# Altium schematic symbol library IC_fact.SchLib: 40 symbols
Pins are listed as number, name and electrical type; pins without a type are passive.

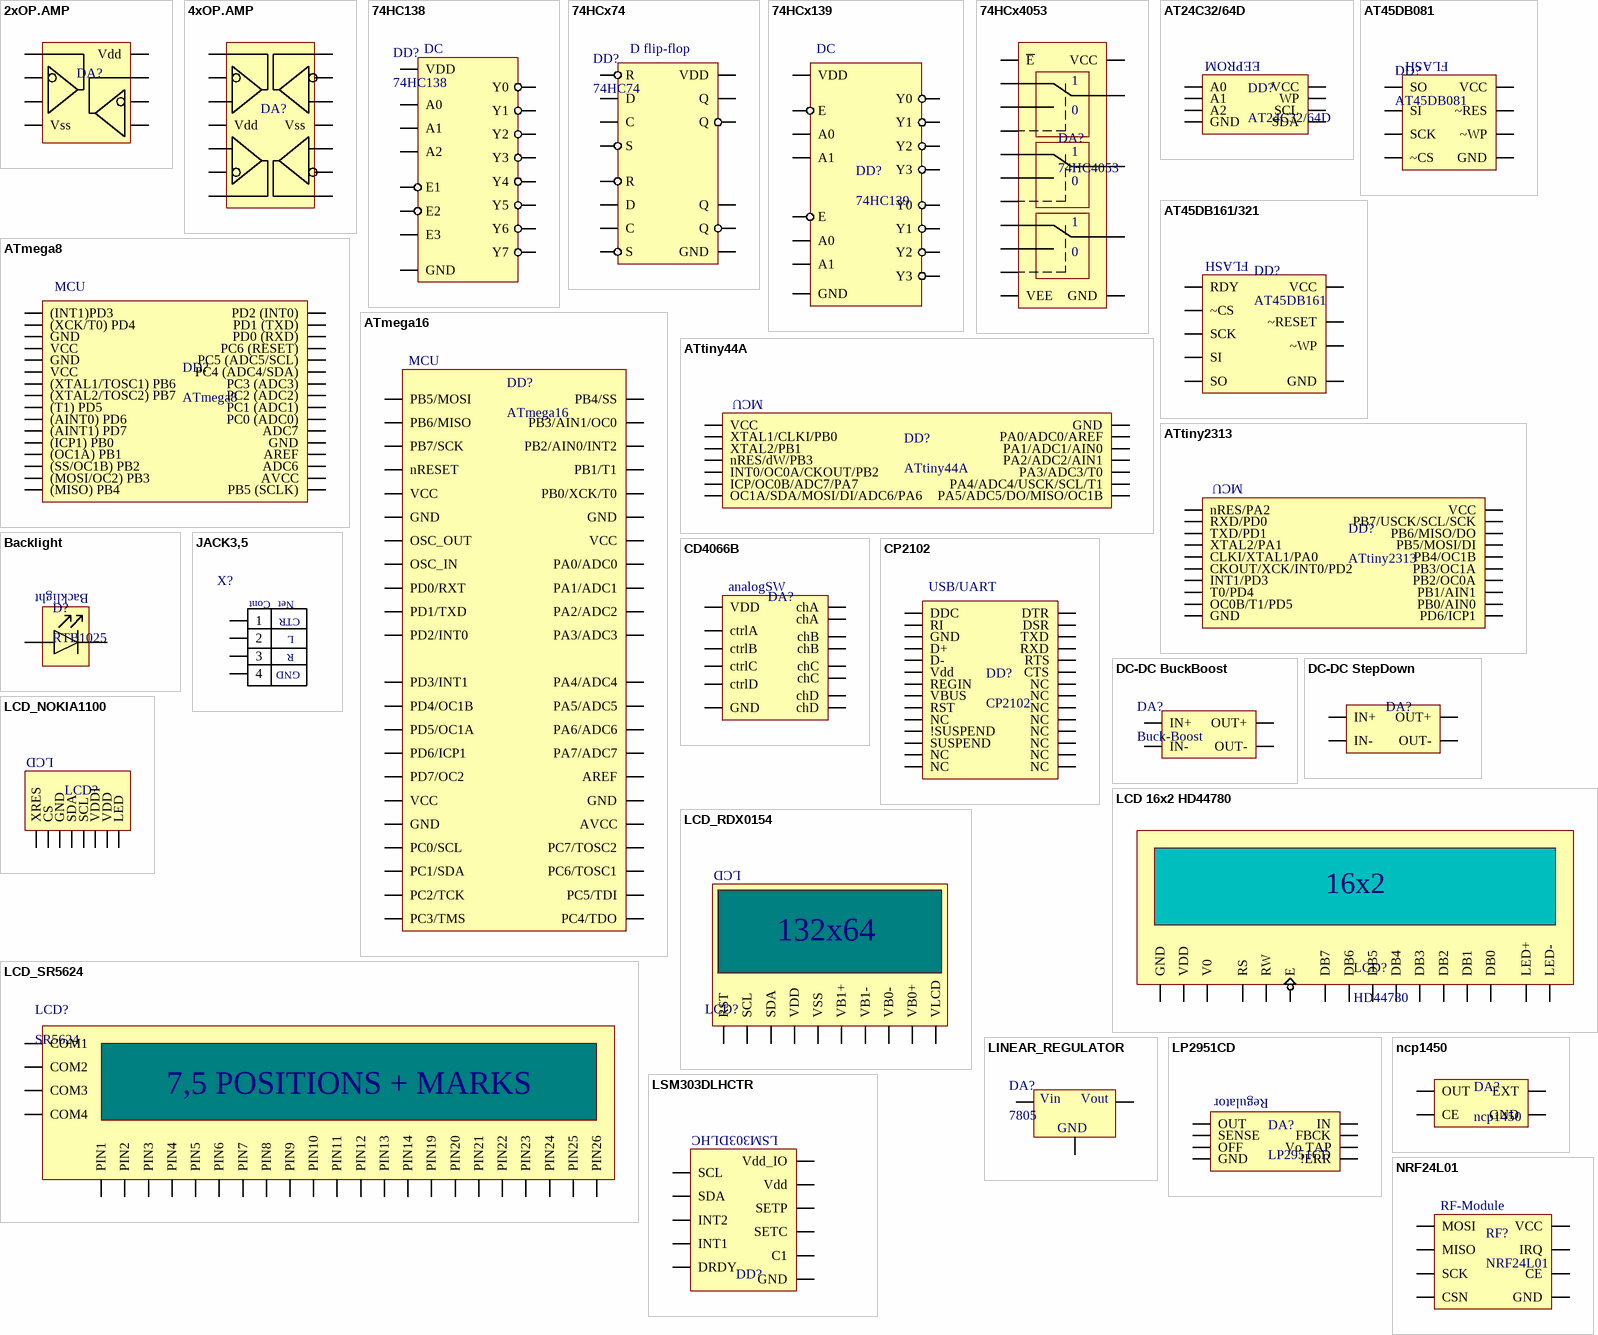
[diagram p0: symbols 2xOP.AMP to NRF24L01]

## 2xOP.AMP
designator DA?  (value not drawn)
footprint SOP8
pins: 1, 2, 3, 4 Vss, 5, 6, 7, 8 Vdd

## 4xOP.AMP
designator DA?
footprint SOP14
pins: 1, 2, 3, 4 Vdd, 5, 6, 7, 8, 9, 10, 11 Vss, 12, 13, 14

## 74HC138
designator DD?
footprint SOP16
pins: 1 A0, 2 A1, 3 A2, 4 E1, 5 E2, 6 E3, 7 Y7, 8 GND, 9 Y6, 10 Y5, 11 Y4, 12 Y3, 13 Y2, 14 Y1, 15 Y0, 16 VDD
text: DC

## 74HCx74
designator DD?, comment 74HC74
footprint SOP14
pins: 1 R, 2 D, 3 C, 4 S, 5 Q, 6 Q, 7 GND, 8 Q, 9 Q, 10 S, 11 C, 12 D, 13 R, 14 VDD
text: D flip-flop

## 74HCx139
designator DD?, comment 74HC139
footprint SOP16
pins: 1 E, 2 A0, 3 A1, 4 Y0, 5 Y1, 6 Y2, 7 Y3, 8 GND, 9 Y3, 10 Y2, 11 Y1, 12 Y0, 13 A1, 14 A0, 15 E, 16 VDD
text: DC

## 74HCx4053
designator DA?, comment 74HC4053
footprint SOP16
pins: 1, 2, 3, 4, 5, 6 ~{E}, 7 VEE, 8 GND, 9, 10, 11, 12, 13, 14, 15, 16 VCC
text: 0

## AT24C32/64D
designator DD?
footprint SOP8
pins: 1 A0, 2 A1, 3 A2, 4 GND, 5 SDA, 6 SCL, 7 WP, 8 VCC
text: EEPROM

## AT45DB081
designator DD?
footprint SOP8
pins: 1 SI, 2 SCK, 3 ~RES, 4 ~CS, 5 ~WP, 6 VCC, 7 GND, 8 SO
text: FLASH

## AT45DB161/321
designator DD?, comment AT45DB161
footprint TSOP28
pins: 1 RDY, 2 ~RESET, 3 ~WP, 6 VCC, 7 GND, 11 ~CS, 12 SCK, 13 SI, 14 SO
text: FLASH

## ATmega8
designator DD?
footprint QFP32
pins: 1 (INT1)PD3, 2 (XCK/T0) PD4, 3 GND, 4 VCC, 5 GND, 6 VCC, 7 (XTAL1/TOSC1) PB6, 8 (XTAL2/TOSC2) PB7, 9 (T1) PD5, 10 (AINT0) PD6, 11 (AINT1) PD7, 12 (ICP1) PB0, 13 (OC1A) PB1, 14 (SS/OC1B) PB2, 15 (MOSI/OC2) PB3, 16 (MISO) PB4, 17 PB5 (SCLK), 18 AVCC, 19 ADC6, 20 AREF, 21 GND, 22 ADC7, 23 PC0 (ADC0), 24 PC1 (ADC1), 25 PC2 (ADC2), 26 PC3 (ADC3), 27 PC4 (ADC4/SDA), 28 PC5 (ADC5/SCL), 29 PC6 (RESET), 30 PD0 (RXD), 31 PD1 (TXD), 32 PD2 (INT0)
text: MCU

## ATmega16
designator DD?
footprint QFP44
pins: 1 PB5/MOSI, 2 PB6/MISO, 3 PB7/SCK, 4 nRESET, 5 VCC, 6 GND, 7 OSC_OUT, 8 OSC_IN, 9 PD0/RXT, 10 PD1/TXD, 11 PD2/INT0, 12 PD3/INT1, 13 PD4/OC1B, 14 PD5/OC1A, 15 PD6/ICP1, 16 PD7/OC2, 17 VCC, 18 GND, 19 PC0/SCL, 20 PC1/SDA, 21 PC2/TCK, 22 PC3/TMS, 23 PC4/TDO, 24 PC5/TDI, 25 PC6/TOSC1, 26 PC7/TOSC2, 27 AVCC, 28 GND, 29 AREF, 30 PA7/ADC7, 31 PA6/ADC6, 32 PA5/ADC5, 33 PA4/ADC4, 34 PA3/ADC3, 35 PA2/ADC2, 36 PA1/ADC1, 37 PA0/ADC0, 38 VCC, 39 GND, 40 PB0/XCK/T0, 41 PB1/T1, 42 PB2/AIN0/INT2, 43 PB3/AIN1/OC0, 44 PB4/SS
text: MCU

## ATtiny44A
designator DD?
footprint SOP14
pins: 1 VCC, 2 XTAL1/CLKI/PB0, 3 XTAL2/PB1, 4 nRES/dW/PB3, 5 INT0/OC0A/CKOUT/PB2, 6 ICP/OC0B/ADC7/PA7, 7 OC1A/SDA/MOSI/DI/ADC6/PA6, 8 PA5/ADC5/DO/MISO/OC1B, 9 PA4/ADC4/USCK/SCL/T1, 10 PA3/ADC3/T0, 11 PA2/ADC2/AIN1, 12 PA1/ADC1/AIN0, 13 PA0/ADC0/AREF, 14 GND
text: MCU

## ATtiny2313
designator DD?
footprint SOP20
pins: 1 nRES/PA2, 2 RXD/PD0, 3 TXD/PD1, 4 XTAL2/PA1, 5 CLKI/XTAL1/PA0, 6 CKOUT/XCK/INT0/PD2, 7 INT1/PD3, 8 T0/PD4, 9 OC0B/T1/PD5, 10 GND, 11 PD6/ICP1, 12 PB0/AIN0, 13 PB1/AIN1, 14 PB2/OC0A, 15 PB3/OC1A, 16 PB4/OC1B, 17 PB5/MOSI/DI, 18 PB6/MISO/DO, 19 PB7/USCK/SCL/SCK, 20 VCC
text: MCU

## Backlight
designator D?, comment RTB1025
footprint RTB1025
pins: 1, 2

## CD4066B
designator DA?  (value not drawn)
footprint SOP14
pins: 1 chA, 2 chA, 3 chB, 4 chB, 5 ctrlB, 6 ctrlC, 7 GND, 8 chC, 9 chC, 10 chD, 11 chD, 12 ctrlD, 13 ctrlA, 14 VDD
text: analogSW

## CP2102
designator DD?
footprint CP2102
pins: 1 DDC, 2 RI, 3 GND, 4 D+, 5 D-, 6 Vdd, 7 REGIN, 8 VBUS, 9 RST, 10 NC, 11 !SUSPEND, 12 SUSPEND, 13 NC, 14 NC, 15 NC, 16 NC, 17 NC, 18 NC, 19 NC, 20 NC, 21 NC, 22 NC, 23 CTS, 24 RTS, 25 RXD, 26 TXD, 27 DSR, 28 DTR
text: USB/UART

## DC-DC BuckBoost
designator DA?, comment Buck-Boost
footprint PLS_3
pins: 1 IN+, 2 IN-, 3 OUT+, 4 OUT-

## DC-DC StepDown
designator DA?  (value not drawn)
footprint DC-DC STEP_DOWN1
footprint PLS_3
pins: 1 IN+, 2 IN-, 3 OUT+, 4 OUT-

## JACK3,5
designator X?  (value not drawn)
footprint JACK3,5_1
pins: 1, 2, 3, 4
text: Cont; Net; CTR; L; R; GND

## LCD 16x2 HD44780
designator LCD?, comment HD44780
footprint LCD_HD44780_1
footprint LCD_HD44780_2
footprint LCD_HD44780_3
footprint LCD_HD44780_4
footprint LCD_HD44780_5
pins: DB0, DB1, DB2, DB3, DB4, DB5, DB6, DB7, E, GND, LED+, LED-, RS, RW, V0, VDD
text: 16x2

## LCD_NOKIA1100
designator LCD?  (value not drawn)
footprint LCD_NOKIA1100
pins: 1 XRES, 2 CS, 3 GND, 4 SDA, 5 SCL, 6 VDDI, 7 VDD, 8 LED
text: LCD

## LCD_RDX0154
designator LCD?  (value not drawn)
footprint RDX0154
pins: 1 RST, 2 SCL, 3 SDA, 4 VDD, 5 VSS, 6 VB1+, 7 VB1-, 8 VB0-, 9 VB0+, 10 VLCD
text: LCD; 132x64

## LCD_SR5624
designator LCD?, comment SR5624
footprint LCD_SR5624
pins: 1 PIN1, 2 PIN2, 3 PIN3, 4 PIN4, 5 PIN5, 6 PIN6, 7 PIN7, 8 PIN8, 9 PIN9, 10 PIN10, 11 PIN11, 12 PIN12, 13 PIN13, 14 PIN14, 15 COM4, 16 COM3, 17 COM2, 18 COM1, 19 PIN19, 20 PIN20, 21 PIN21, 22 PIN22, 23 PIN23, 24 PIN24, 25 PIN25, 26 PIN26
text: 7,5 POSITIONS + MARKS

## LINEAR_REGULATOR
designator DA?, comment 7805
footprint LINREG_DPAK
pins: gnd GND, in Vin, out Vout

## LP2951CD
designator DA?
footprint SOP8
pins: 1 OUT, 2 SENSE, 3 OFF, 4 GND, 5 !ERR, 6 Vo TAP, 7 FBCK, 8 IN
text: Regulator

## LSM303DLHCTR
designator DD?  (value not drawn)
footprint LSM303DLHCT
pins: 1 Vdd_IO, 2 SCL, 3 SDA, 4 INT2, 5 INT1, 6 C1, 7 GND, 9 DRDY, 12 SETP, 13 SETC, 14 Vdd
text: LSM303DLHC

## ncp1450
designator DA?
footprint TSSOP5
pins: 1 CE, 2 OUT, 4 GND, 5 EXT

## NRF24L01
designator RF?
footprint NRF24L01_MOD_PLAIN
footprint NRF24L01_MOD_ANGLE
pins: 1 GND, 2 VCC, 3 CE, 4 CSN, 5 SCK, 6 MOSI, 7 MISO, 8 IRQ
text: RF-Module

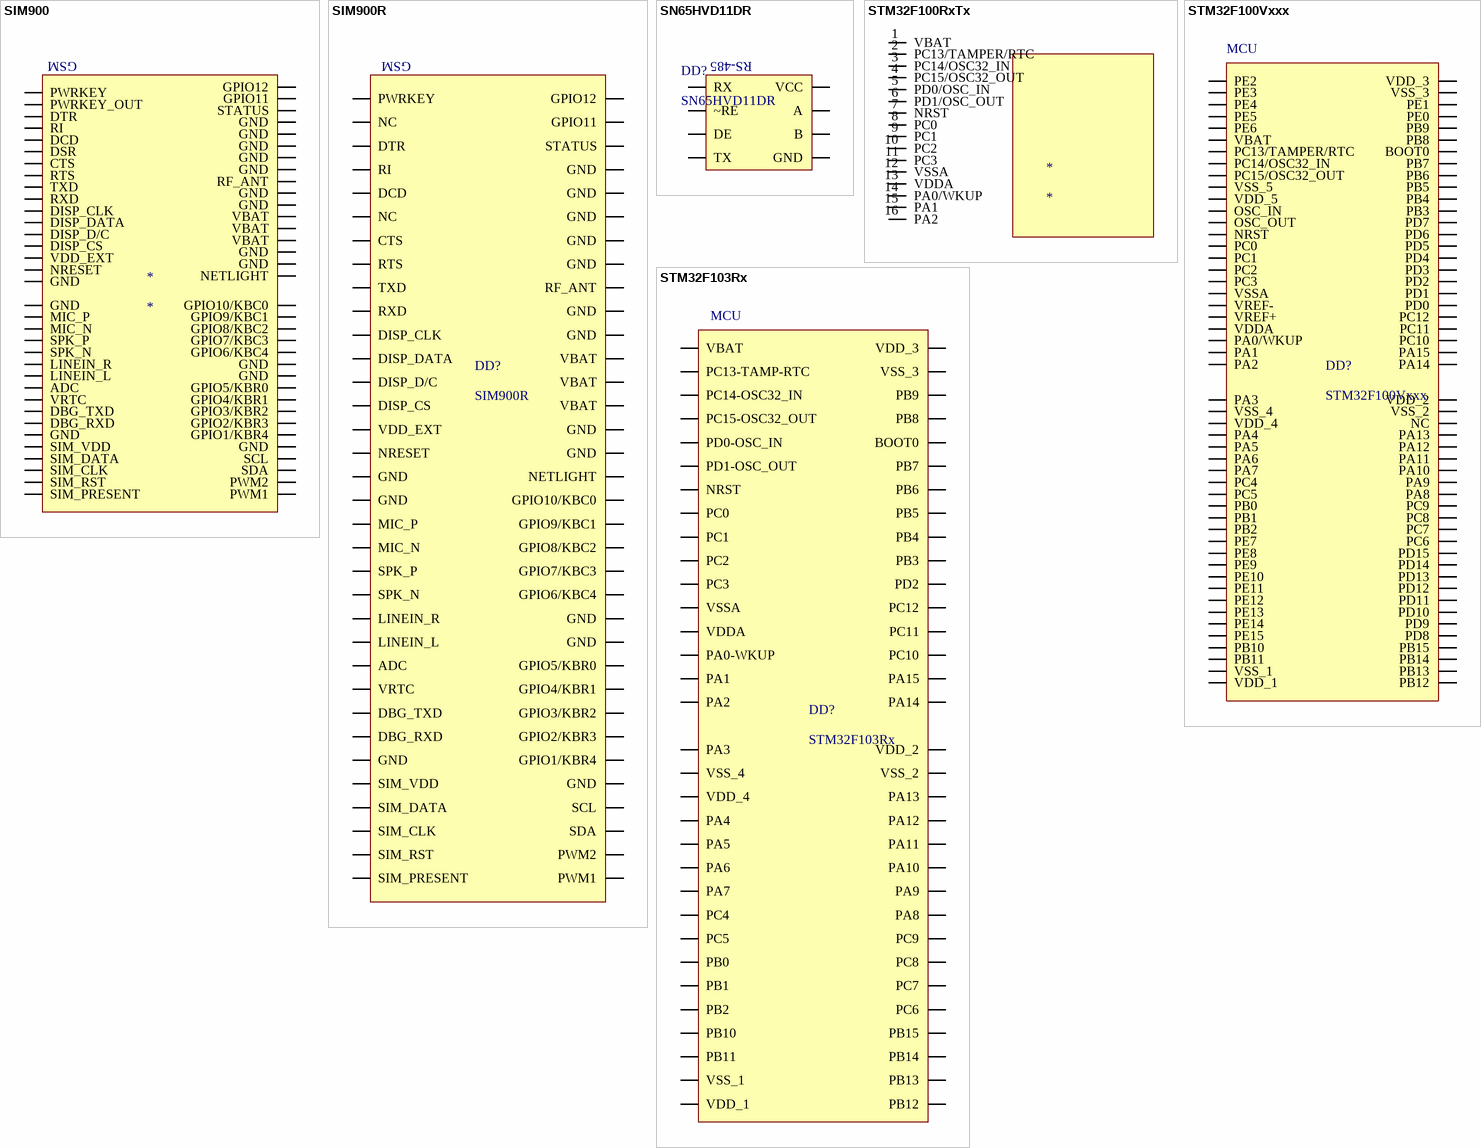
[diagram p1: symbols SIM900 to STM32F103Rx]

## SIM900
designator *
footprint SIM900_R (SIM900 or SIM900R)
pins: 1 PWRKEY, 2 PWRKEY_OUT, 3 DTR, 4 RI, 5 DCD, 6 DSR, 7 CTS, 8 RTS, 9 TXD, 10 RXD, 11 DISP_CLK, 12 DISP_DATA, 13 DISP_D/C, 14 DISP_CS, 15 VDD_EXT, 16 NRESET, 17 GND, 18 GND, 19 MIC_P, 20 MIC_N, 21 SPK_P, 22 SPK_N, 23 LINEIN_R, 24 LINEIN_L, 25 ADC, 26 VRTC, 27 DBG_TXD, 28 DBG_RXD, 29 GND, 30 SIM_VDD, 31 SIM_DATA, 32 SIM_CLK, 33 SIM_RST, 34 SIM_PRESENT, 35 PWM1, 36 PWM2, 37 SDA, 38 SCL, 39 GND, 40 GPIO1/KBR4, 41 GPIO2/KBR3, 42 GPIO3/KBR2, 43 GPIO4/KBR1, 44 GPIO5/KBR0, 45 GND, 46 GND, 47 GPIO6/KBC4, 48 GPIO7/KBC3, 49 GPIO8/KBC2, 50 GPIO9/KBC1, 51 GPIO10/KBC0, 52 NETLIGHT, 53 GND, 54 GND, 55 VBAT, 56 VBAT, 57 VBAT, 58 GND, 59 GND, 60 RF_ANT, 61 GND, 62 GND, 63 GND, 64 GND, 65 GND, 66 STATUS, 67 GPIO11, 68 GPIO12
text: GSM

## SIM900R
designator DD?
footprint SIM900_R (SIM900 or SIM900R)
pins: 1 PWRKEY, 2 NC, 3 DTR, 4 RI, 5 DCD, 6 NC, 7 CTS, 8 RTS, 9 TXD, 10 RXD, 11 DISP_CLK, 12 DISP_DATA, 13 DISP_D/C, 14 DISP_CS, 15 VDD_EXT, 16 NRESET, 17 GND, 18 GND, 19 MIC_P, 20 MIC_N, 21 SPK_P, 22 SPK_N, 23 LINEIN_R, 24 LINEIN_L, 25 ADC, 26 VRTC, 27 DBG_TXD, 28 DBG_RXD, 29 GND, 30 SIM_VDD, 31 SIM_DATA, 32 SIM_CLK, 33 SIM_RST, 34 SIM_PRESENT, 35 PWM1, 36 PWM2, 37 SDA, 38 SCL, 39 GND, 40 GPIO1/KBR4, 41 GPIO2/KBR3, 42 GPIO3/KBR2, 43 GPIO4/KBR1, 44 GPIO5/KBR0, 45 GND, 46 GND, 47 GPIO6/KBC4, 48 GPIO7/KBC3, 49 GPIO8/KBC2, 50 GPIO9/KBC1, 51 GPIO10/KBC0, 52 NETLIGHT, 53 GND, 54 GND, 55 VBAT, 56 VBAT, 57 VBAT, 58 GND, 59 GND, 60 RF_ANT, 61 GND, 62 GND, 63 GND, 64 GND, 65 GND, 66 STATUS, 67 GPIO11, 68 GPIO12
text: GSM

## SN65HVD11DR
designator DD?
footprint SOP8
pins: 1 RX, 2 ~RE, 3 DE, 4 TX, 5 GND, 6 A, 7 B, 8 VCC
text: RS-485

## STM32F100RxTx
designator *
pins: 1 VBAT, 2 PC13/TAMPER/RTC, 3 PC14/OSC32_IN, 4 PC15/OSC32_OUT, 5 PD0/OSC_IN, 6 PD1/OSC_OUT, 7 NRST, 8 PC0, 9 PC1, 10 PC2, 11 PC3, 12 VSSA, 13 VDDA, 14 PA0/WKUP, 15 PA1, 16 PA2

## STM32F100Vxxx
designator DD?
pins: 1 PE2, 2 PE3, 3 PE4, 4 PE5, 5 PE6, 6 VBAT, 7 PC13/TAMPER/RTC, 8 PC14/OSC32_IN, 9 PC15/OSC32_OUT, 10 VSS_5, 11 VDD_5, 12 OSC_IN, 13 OSC_OUT, 14 NRST, 15 PC0, 16 PC1, 17 PC2, 18 PC3, 19 VSSA, 20 VREF-, 21 VREF+, 22 VDDA, 23 PA0/WKUP, 24 PA1, 25 PA2, 26 PA3, 27 VSS_4, 28 VDD_4, 29 PA4, 30 PA5, 31 PA6, 32 PA7, 33 PC4, 34 PC5, 35 PB0, 36 PB1, 37 PB2, 38 PE7, 39 PE8, 40 PE9, 41 PE10, 42 PE11, 43 PE12, 44 PE13, 45 PE14, 46 PE15, 47 PB10, 48 PB11, 49 VSS_1, 50 VDD_1, 51 PB12, 52 PB13, 53 PB14, 54 PB15, 55 PD8, 56 PD9, 57 PD10, 58 PD11, 59 PD12, 60 PD13, 61 PD14, 62 PD15, 63 PC6, 64 PC7, 65 PC8, 66 PC9, 67 PA8, 68 PA9, 69 PA10, 70 PA11, 71 PA12, 72 PA13, 73 NC, 74 VSS_2, 75 VDD_2, 76 PA14, 77 PA15, 78 PC10, 79 PC11, 80 PC12, 81 PD0, 82 PD1, 83 PD2, 84 PD3, 85 PD4, 86 PD5, 87 PD6, 88 PD7, 89 PB3, 90 PB4, 91 PB5, 92 PB6, 93 PB7, 94 BOOT0, 95 PB8, 96 PB9, 97 PE0, 98 PE1, 99 VSS_3, 100 VDD_3
text: MCU

## STM32F103Rx
designator DD?
footprint QFP64
pins: 1 VBAT, 2 PC13-TAMP-RTC, 3 PC14-OSC32_IN, 4 PC15-OSC32_OUT, 5 PD0-OSC_IN, 6 PD1-OSC_OUT, 7 NRST, 8 PC0, 9 PC1, 10 PC2, 11 PC3, 12 VSSA, 13 VDDA, 14 PA0-WKUP, 15 PA1, 16 PA2, 17 PA3, 18 VSS_4, 19 VDD_4, 20 PA4, 21 PA5, 22 PA6, 23 PA7, 24 PC4, 25 PC5, 26 PB0, 27 PB1, 28 PB2, 29 PB10, 30 PB11, 31 VSS_1, 32 VDD_1, 33 PB12, 34 PB13, 35 PB14, 36 PB15, 37 PC6, 38 PC7, 39 PC8, 40 PC9, 41 PA8, 42 PA9, 43 PA10, 44 PA11, 45 PA12, 46 PA13, 47 VSS_2, 48 VDD_2, 49 PA14, 50 PA15, 51 PC10, 52 PC11, 53 PC12, 54 PD2, 55 PB3, 56 PB4, 57 PB5, 58 PB6, 59 PB7, 60 BOOT0, 61 PB8, 62 PB9, 63 VSS_3, 64 VDD_3
text: MCU

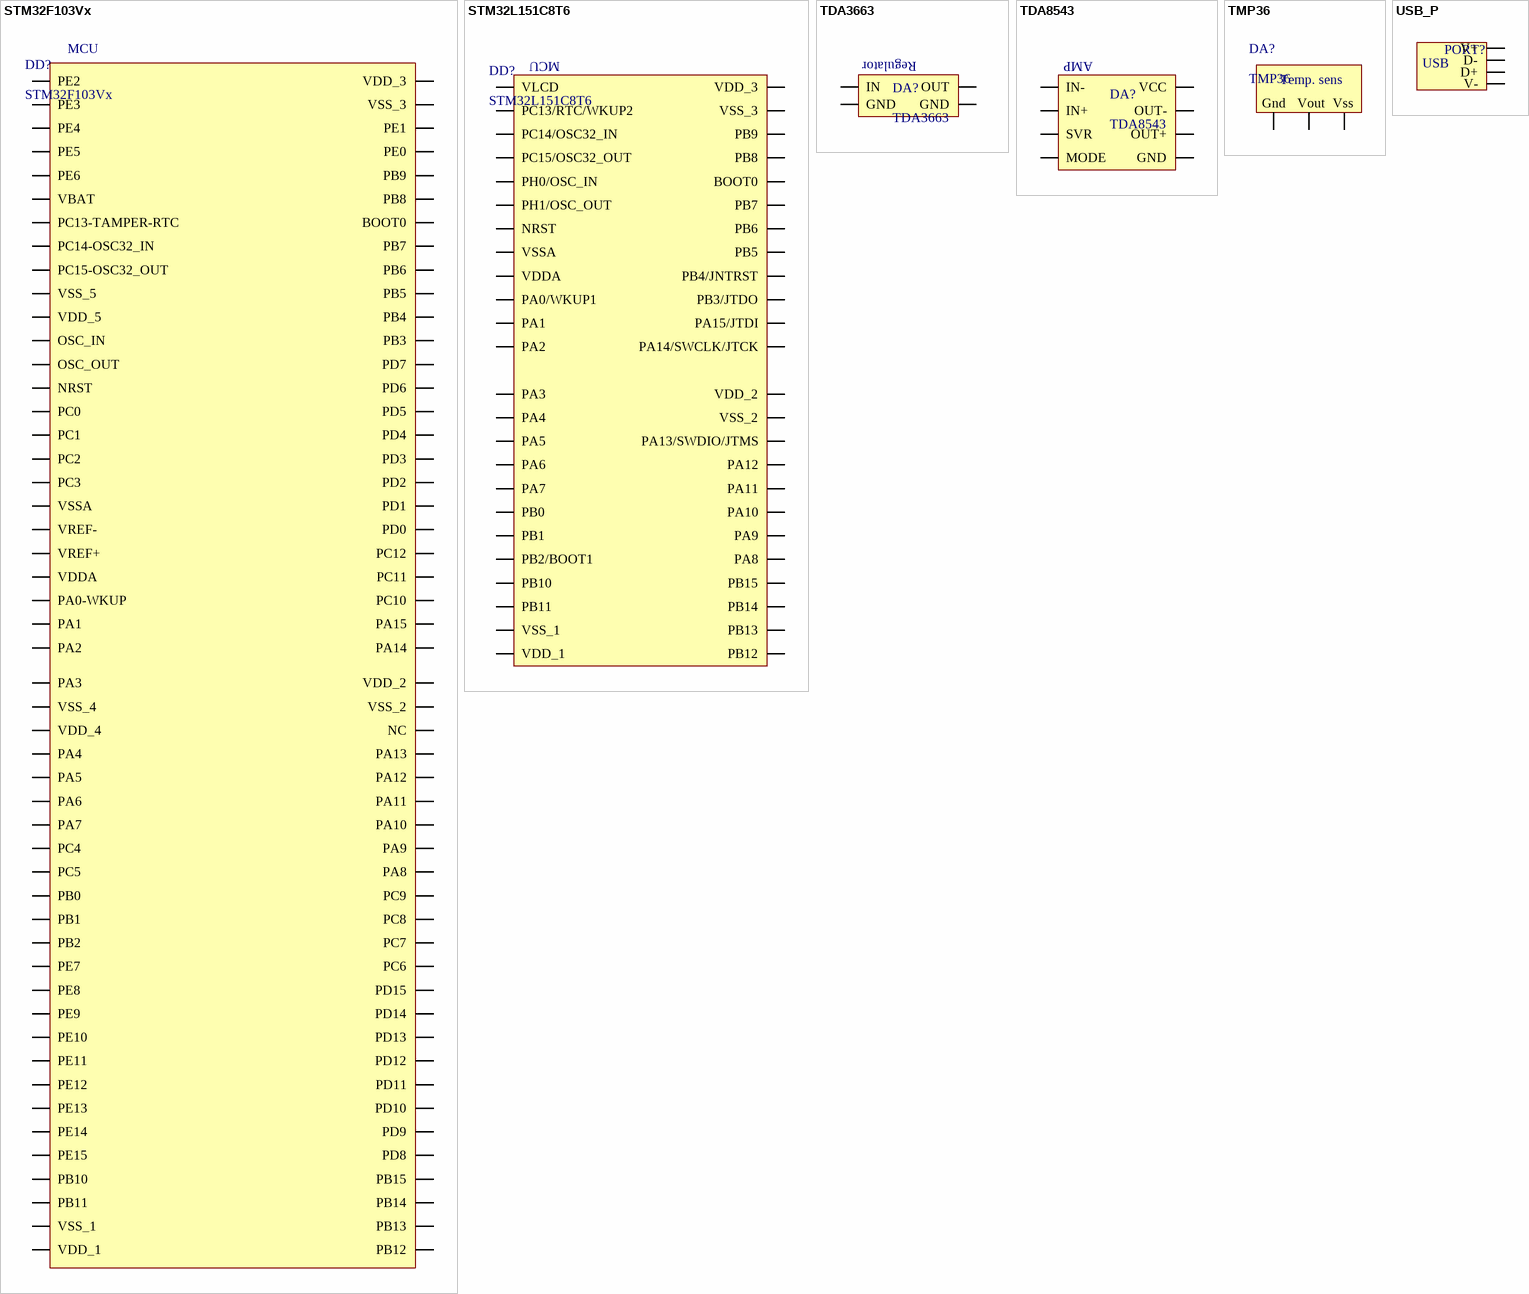
[diagram p2: symbols STM32F103Vx to USB_P]

## STM32F103Vx
designator DD?
footprint QFP100
pins: 1 PE2, 2 PE3, 3 PE4, 4 PE5, 5 PE6, 6 VBAT, 7 PC13-TAMPER-RTC, 8 PC14-OSC32_IN, 9 PC15-OSC32_OUT, 10 VSS_5, 11 VDD_5, 12 OSC_IN, 13 OSC_OUT, 14 NRST, 15 PC0, 16 PC1, 17 PC2, 18 PC3, 19 VSSA, 20 VREF-, 21 VREF+, 22 VDDA, 23 PA0-WKUP, 24 PA1, 25 PA2, 26 PA3, 27 VSS_4, 28 VDD_4, 29 PA4, 30 PA5, 31 PA6, 32 PA7, 33 PC4, 34 PC5, 35 PB0, 36 PB1, 37 PB2, 38 PE7, 39 PE8, 40 PE9, 41 PE10, 42 PE11, 43 PE12, 44 PE13, 45 PE14, 46 PE15, 47 PB10, 48 PB11, 49 VSS_1, 50 VDD_1, 51 PB12, 52 PB13, 53 PB14, 54 PB15, 55 PD8, 56 PD9, 57 PD10, 58 PD11, 59 PD12, 60 PD13, 61 PD14, 62 PD15, 63 PC6, 64 PC7, 65 PC8, 66 PC9, 67 PA8, 68 PA9, 69 PA10, 70 PA11, 71 PA12, 72 PA13, 73 NC, 74 VSS_2, 75 VDD_2, 76 PA14, 77 PA15, 78 PC10, 79 PC11, 80 PC12, 81 PD0, 82 PD1, 83 PD2, 84 PD3, 85 PD4, 86 PD5, 87 PD6, 88 PD7, 89 PB3, 90 PB4, 91 PB5, 92 PB6, 93 PB7, 94 BOOT0, 95 PB8, 96 PB9, 97 PE0, 98 PE1, 99 VSS_3, 100 VDD_3
text: MCU

## STM32L151C8T6
designator DD?
footprint QFP48
pins: 1 VLCD, 2 PC13/RTC/WKUP2, 3 PC14/OSC32_IN, 4 PC15/OSC32_OUT, 5 PH0/OSC_IN, 6 PH1/OSC_OUT, 7 NRST, 8 VSSA, 9 VDDA, 10 PA0/WKUP1, 11 PA1, 12 PA2, 13 PA3, 14 PA4, 15 PA5, 16 PA6, 17 PA7, 18 PB0, 19 PB1, 20 PB2/BOOT1, 21 PB10, 22 PB11, 23 VSS_1, 24 VDD_1, 25 PB12, 26 PB13, 27 PB14, 28 PB15, 29 PA8, 30 PA9, 31 PA10, 32 PA11, 33 PA12, 34 PA13/SWDIO/JTMS, 35 VSS_2, 36 VDD_2, 37 PA14/SWCLK/JTCK, 38 PA15/JTDI, 39 PB3/JTDO, 40 PB4/JNTRST, 41 PB5, 42 PB6, 43 PB7, 44 BOOT0, 45 PB8, 46 PB9, 47 VSS_3, 48 VDD_3
text: MCU

## TDA3663
designator DA?
footprint SOT223
pins: 1 IN, 2 GND, 3 OUT, 4 GND
text: Regulator

## TDA8543
designator DA?
pins: 3 MODE, 4 SVR, 5 IN+, 6 IN-, 11 OUT-, 12 VCC, 13 GND, 14 OUT+
text: AMP

## TMP36
designator DA?
footprint TO-92
pins: 1, 2, 3
text: Temp. sens; Gnd; Vout; Vss

## USB_P
designator PORT?  (value not drawn)
footprint USB_P
pins: 1 V+, 2 D-, 3 D+, 4 V-
text: USB